# EAGLE library part XC95288XL/TQ144 (library Xilinx)
XC9500XL 288 Die in a TQ144 Package
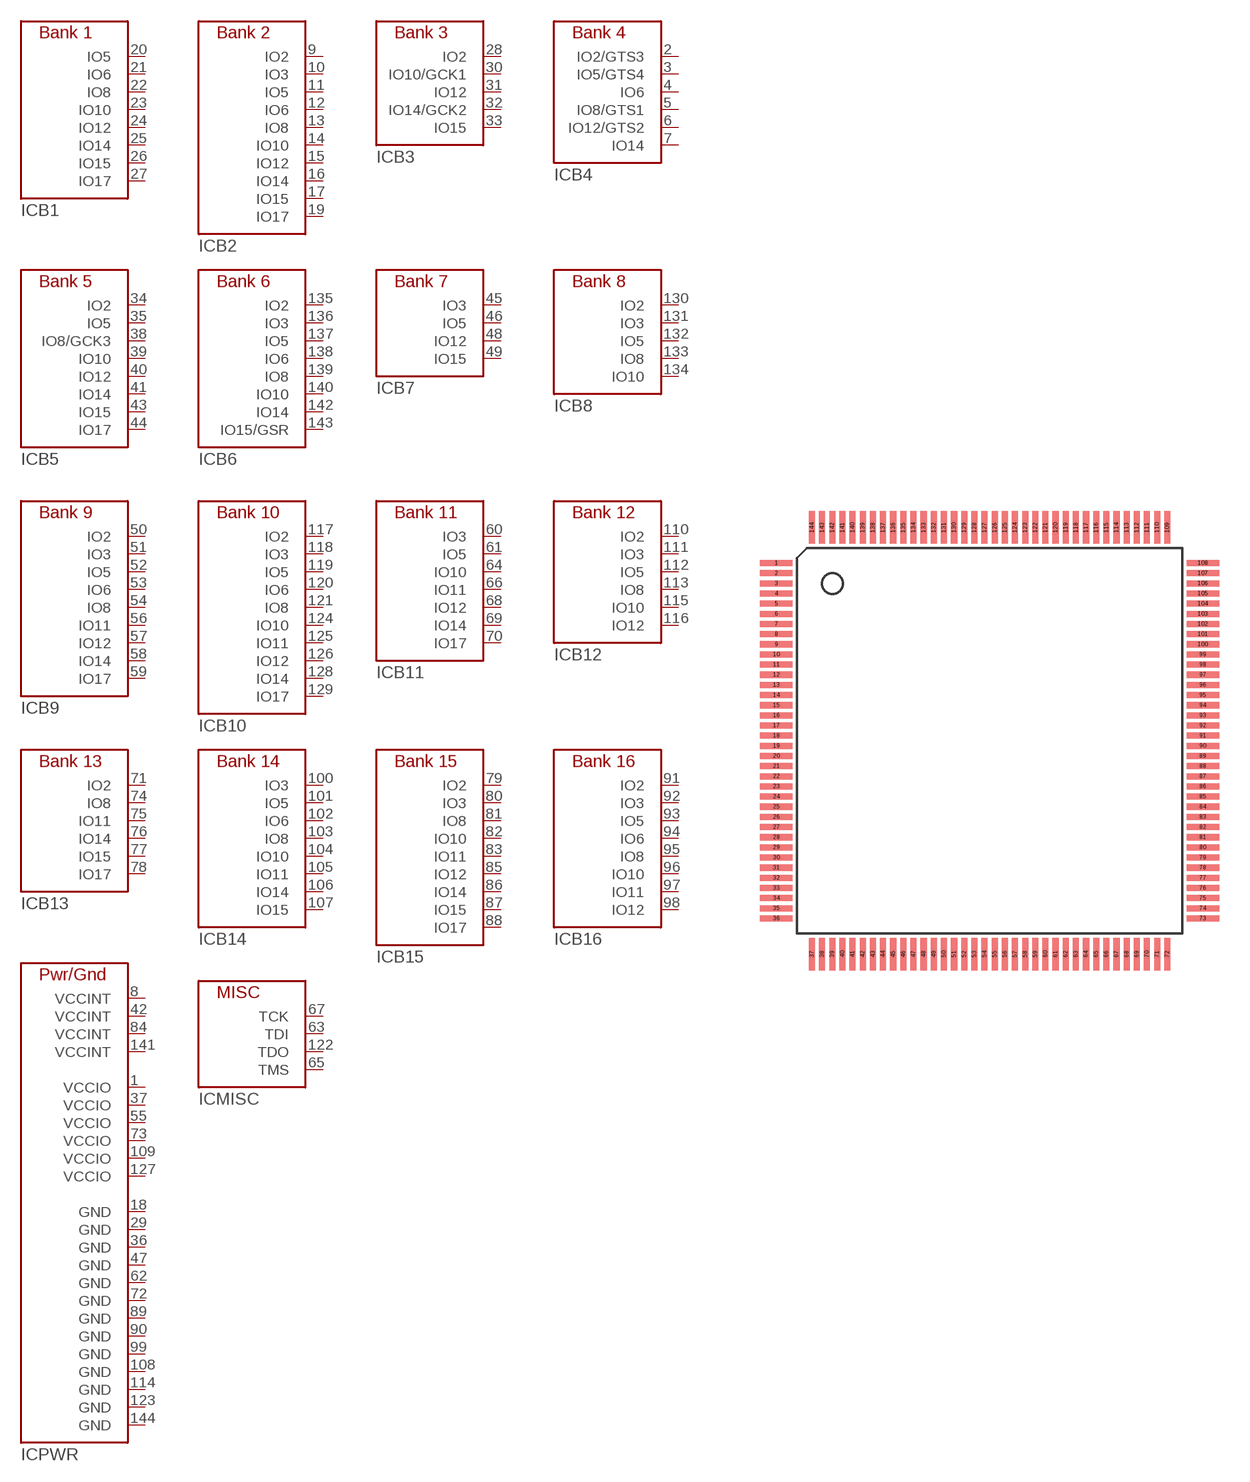
[diagram p43: symbol with the pads of TQ144; footprint TQ144]

Designator prefix IC; gates B1=XC95288XL/TQ144-B1 B2=XC95288XL/TQ144-B2 B3=XC95288XL/TQ144-B3 B4=XC95288XL/TQ144-B4 B5=XC95288XL/TQ144-B5 B6=XC95288XL/TQ144-B6 B7=XC95288XL/TQ144-B7 B8=XC95288XL/TQ144-B8 B9=XC95288XL/TQ144-B9 B10=XC95288XL/TQ144-B10 B11=XC95288XL/TQ144-B11 B12=XC95288XL/TQ144-B12 B13=XC95288XL/TQ144-B13 B14=XC95288XL/TQ144-B14 B15=XC95288XL/TQ144-B15 B16=XC95288XL/TQ144-B16 PWR=XC95288XL/TQ144-PWR MISC=XC95288XL/TQ144-MISC

## XC95288XL/TQ144  [TQ144]
1  PWR:VCCIO  pwr
2  B4:IO2/GTS3
3  B4:IO5/GTS4
4  B4:IO6
5  B4:IO8/GTS1
6  B4:IO12/GTS2
7  B4:IO14
8  PWR:VCCINT  pwr
9  B2:IO2
10  B2:IO3
11  B2:IO5
12  B2:IO6
13  B2:IO8
14  B2:IO10
15  B2:IO12
16  B2:IO14
17  B2:IO15
18  PWR:GND  pwr
19  B2:IO17
20  B1:IO5
21  B1:IO6
22  B1:IO8
23  B1:IO10
24  B1:IO12
25  B1:IO14
26  B1:IO15
27  B1:IO17
28  B3:IO2
29  PWR:GND  pwr
30  B3:IO10/GCK1
31  B3:IO12
32  B3:IO14/GCK2
33  B3:IO15
34  B5:IO2
35  B5:IO5
36  PWR:GND  pwr
37  PWR:VCCIO  pwr
38  B5:IO8/GCK3
39  B5:IO10
40  B5:IO12
41  B5:IO14
42  PWR:VCCINT  pwr
43  B5:IO15
44  B5:IO17
45  B7:IO3
46  B7:IO5
47  PWR:GND  pwr
48  B7:IO12
49  B7:IO15
50  B9:IO2
51  B9:IO3
52  B9:IO5
53  B9:IO6
54  B9:IO8
55  PWR:VCCIO  pwr
56  B9:IO11
57  B9:IO12
58  B9:IO14
59  B9:IO17
60  B11:IO3
61  B11:IO5
62  PWR:GND  pwr
63  MISC:TDI
64  B11:IO10
65  MISC:TMS
66  B11:IO11
67  MISC:TCK
68  B11:IO12
69  B11:IO14
70  B11:IO17
71  B13:IO2
72  PWR:GND  pwr
73  PWR:VCCIO  pwr
74  B13:IO8
75  B13:IO11
76  B13:IO14
77  B13:IO15
78  B13:IO17
79  B15:IO2
80  B15:IO3
81  B15:IO8
82  B15:IO10
83  B15:IO11
84  PWR:VCCINT  pwr
85  B15:IO12
86  B15:IO14
87  B15:IO15
88  B15:IO17
89  PWR:GND  pwr
90  PWR:GND  pwr
91  B16:IO2
92  B16:IO3
93  B16:IO5
94  B16:IO6
95  B16:IO8
96  B16:IO10
97  B16:IO11
98  B16:IO12
99  PWR:GND  pwr
100  B14:IO3
101  B14:IO5
102  B14:IO6
103  B14:IO8
104  B14:IO10
105  B14:IO11
106  B14:IO14
107  B14:IO15
108  PWR:GND  pwr
109  PWR:VCCIO  pwr
110  B12:IO2
111  B12:IO3
112  B12:IO5
113  B12:IO8
114  PWR:GND  pwr
115  B12:IO10
116  B12:IO12
117  B10:IO2
118  B10:IO3
119  B10:IO5
120  B10:IO6
121  B10:IO8
122  MISC:TDO
123  PWR:GND  pwr
124  B10:IO10
125  B10:IO11
126  B10:IO12
127  PWR:VCCIO  pwr
128  B10:IO14
129  B10:IO17
130  B8:IO2
131  B8:IO3
132  B8:IO5
133  B8:IO8
134  B8:IO10
135  B6:IO2
136  B6:IO3
137  B6:IO5
138  B6:IO6
139  B6:IO8
140  B6:IO10
141  PWR:VCCINT  pwr
142  B6:IO14
143  B6:IO15/GSR
144  PWR:GND  pwr

## Footprint TQ144 (pad centres in mm)
smd 1.6 x 0.3: 1 -10.5,8.75; 2 -10.5,8.25; 3 -10.5,7.75; 4 -10.5,7.25; 5 -10.5,6.75; 6 -10.5,6.25; 7 -10.5,5.75; 8 -10.5,5.25; 9 -10.5,4.75; 10 -10.5,4.25; 11 -10.5,3.75; 12 -10.5,3.25; 13 -10.5,2.75; 14 -10.5,2.25; 15 -10.5,1.75; 16 -10.5,1.25; 17 -10.5,0.75; 18 -10.5,0.25; 19 -10.5,-0.25; 20 -10.5,-0.75; 21 -10.5,-1.25; 22 -10.5,-1.75; 23 -10.5,-2.25; 24 -10.5,-2.75; 25 -10.5,-3.25; 26 -10.5,-3.75; 27 -10.5,-4.25; 28 -10.5,-4.75; 29 -10.5,-5.25; 30 -10.5,-5.75; 31 -10.5,-6.25; 32 -10.5,-6.75; 33 -10.5,-7.25; 34 -10.5,-7.75; 35 -10.5,-8.25; 36 -10.5,-8.75; 73 10.5,-8.75; 74 10.5,-8.25; 75 10.5,-7.75; 76 10.5,-7.25; 77 10.5,-6.75; 78 10.5,-6.25; 79 10.5,-5.75; 80 10.5,-5.25; 81 10.5,-4.75; 82 10.5,-4.25; 83 10.5,-3.75; 84 10.5,-3.25; 85 10.5,-2.75; 86 10.5,-2.25; 87 10.5,-1.75; 88 10.5,-1.25; 89 10.5,-0.75; 90 10.5,-0.25; 91 10.5,0.25; 92 10.5,0.75; 93 10.5,1.25; 94 10.5,1.75; 95 10.5,2.25; 96 10.5,2.75; 97 10.5,3.25; 98 10.5,3.75; 99 10.5,4.25; 100 10.5,4.75; 101 10.5,5.25; 102 10.5,5.75; 103 10.5,6.25; 104 10.5,6.75; 105 10.5,7.25; 106 10.5,7.75; 107 10.5,8.25; 108 10.5,8.75
smd 0.3 x 1.6: 37 -8.75,-10.5; 38 -8.25,-10.5; 39 -7.75,-10.5; 40 -7.25,-10.5; 41 -6.75,-10.5; 42 -6.25,-10.5; 43 -5.75,-10.5; 44 -5.25,-10.5; 45 -4.75,-10.5; 46 -4.25,-10.5; 47 -3.75,-10.5; 48 -3.25,-10.5; 49 -2.75,-10.5; 50 -2.25,-10.5; 51 -1.75,-10.5; 52 -1.25,-10.5; 53 -0.75,-10.5; 54 -0.25,-10.5; 55 0.25,-10.5; 56 0.75,-10.5; 57 1.25,-10.5; 58 1.75,-10.5; 59 2.25,-10.5; 60 2.75,-10.5; 61 3.25,-10.5; 62 3.75,-10.5; 63 4.25,-10.5; 64 4.75,-10.5; 65 5.25,-10.5; 66 5.75,-10.5; 67 6.25,-10.5; 68 6.75,-10.5; 69 7.25,-10.5; 70 7.75,-10.5; 71 8.25,-10.5; 72 8.75,-10.5; 109 8.75,10.5; 110 8.25,10.5; 111 7.75,10.5; 112 7.25,10.5; 113 6.75,10.5; 114 6.25,10.5; 115 5.75,10.5; 116 5.25,10.5; 117 4.75,10.5; 118 4.25,10.5; 119 3.75,10.5; 120 3.25,10.5; 121 2.75,10.5; 122 2.25,10.5; 123 1.75,10.5; 124 1.25,10.5; 125 0.75,10.5; 126 0.25,10.5; 127 -0.25,10.5; 128 -0.75,10.5; 129 -1.25,10.5; 130 -1.75,10.5; 131 -2.25,10.5; 132 -2.75,10.5; 133 -3.25,10.5; 134 -3.75,10.5; 135 -4.25,10.5; 136 -4.75,10.5; 137 -5.25,10.5; 138 -5.75,10.5; 139 -6.25,10.5; 140 -6.75,10.5; 141 -7.25,10.5; 142 -7.75,10.5; 143 -8.25,10.5; 144 -8.75,10.5